# EAGLE library part ESP32 (library ESP32)
Device for the ESP32 WROOM development board
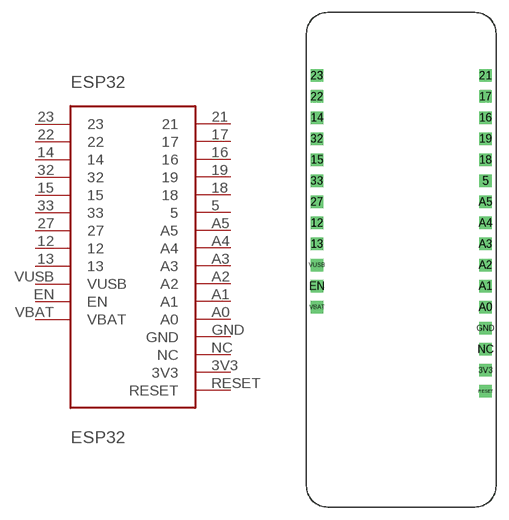
[diagram p0: symbol with the pads of ESP32; footprint ESP32]

Designator prefix ESP32

## ESP32  [ESP32]
3V3  3V3
5  5
12  12
13  13
14  14
15  15
16  16
17  17
18  18
19  19
21  21
22  22
23  23
27  27
32  32
33  33
A0  A0
A1  A1
A2  A2
A3  A3
A4  A4
A5  A5
EN  EN
GND  GND
NC  NC
RESET  RESET
VBAT  VBAT
VUSB  VUSB

## Footprint ESP32 (pad centres in mm)
Package for the ESP32 WROOM Development Board
drill 1 pad 1.27 square: 3V3 20.32,16.51; 5 20.32,39.37; 12 0,34.29; 13 0,31.75; 14 0,46.99; 15 0,41.91; 16 20.32,46.99; 17 20.32,49.53; 18 20.32,41.91; 19 20.32,44.45; 21 20.32,52.07; 22 0,49.53; 23 0,52.07; 27 0,36.83; 32 0,44.45; 33 0,39.37; A0 20.32,24.13; A1 20.32,26.67; A2 20.32,29.21; A3 20.32,31.75; A4 20.32,34.29; A5 20.32,36.83; EN 0,26.67; GND 20.32,21.59; NC 20.32,19.05; RESET 20.32,13.97; VBAT 0,24.13; VUSB 0,29.21